# Altium footprint library MergenElektronik_Microcontrollers_STMicroelectronics.PcbLib: 2 footprints
Each footprint in its own frame and in the unit in brackets; x right, y up, seen from the top. Pads: shape width x height; smd on the part's side, far side on the other; paste and mask are expansions set on the pad; w line width, h text height; cw(c..) or ccw(c..) is an arc to the next point about the centre after c.
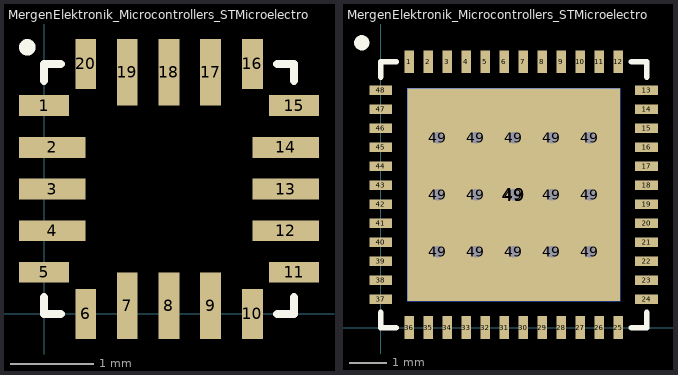
[diagram p0: the footprints below, top view; thin cyan lines are the x and y axes]

## MergenElektronik_Microcontrollers_STMicroelectronics_UFQFPN-20 [mm] "UFQFPN-20"
pads (20):
  rect 0.6x0.25 smd: 1(0,2.5) 5(0,0.5) 11(3,0.5) 15(3,2.5)
  rect 0.8x0.25 smd: 2(0.1,2) 3(0.1,1.5) 4(0.1,1) 12(2.9,1) 13(2.9,1.5) 14(2.9,2)
  rect 0.25x0.6 smd: 6(0.5,0) 10(2.5,0) 16(2.5,3) 20(0.5,3)
  rect 0.25x0.8 smd: 7(1,0.1) 8(1.5,0.1) 9(2,0.1) 17(2,2.9) 18(1.5,2.9) 19(1,2.9)
Top Overlay:
  circle w0.1: c-0.2,3.2 r0.05
  lines w0.1: 0,0.2 0,0 0.2,0 ; 0,2.8 0,3 0.2,3 ; 2.8,0 3,0 3,0.2 ; 2.8,3 3,3 ; 3,3 3,2.8 3,3
3D body "STM32C011F6U6TR.step": height 0.6, standoff 0, extent 0,0 3,3

## MergenElektronik_Microcontrollers_STMicroelectronics_UFQFPN-48 [mm] "UFQFPN-48"
pads (65):
  rect 0.25x0.6 smd: 1(0.75,7) 2(1.25,7) 3(1.75,7) 4(2.25,7) 5(2.75,7) 6(3.25,7) 7(3.75,7) 8(4.25,7) 9(4.75,7) 10(5.25,7) 11(5.75,7) 12(6.25,7) 25(6.25,0) 26(5.75,0) 27(5.25,0) 28(4.75,0) 29(4.25,0) 30(3.75,0) 31(3.25,0) 32(2.75,0) 33(2.25,0) 34(1.75,0) 35(1.25,0) 36(0.75,0)
  rect 0.6x0.25 smd: 13(7,6.25) 14(7,5.75) 15(7,5.25) 16(7,4.75) 17(7,4.25) 18(7,3.75) 19(7,3.25) 20(7,2.75) 21(7,2.25) 22(7,1.75) 23(7,1.25) 24(7,0.75) 37(0,0.75) 38(0,1.25) 39(0,1.75) 40(0,2.25) 41(0,2.75) 42(0,3.25) 43(0,3.75) 44(0,4.25) 45(0,4.75) 46(0,5.25) 47(0,5.75) 48(0,6.25)
  round 0.6 hole 0.3: 49(1.5,2) 49(1.5,3.5) 49(1.5,5) 49(2.5,2) 49(2.5,3.5) 49(2.5,5) 49(3.5,2) 49(3.5,3.5) 49(3.5,5) 49(4.5,2) 49(4.5,3.5) 49(4.5,5) 49(5.5,2) 49(5.5,3.5) 49(5.5,5)
  rect 5.6x5.6 smd: 49(3.5,3.5)
  rect 5.6x5.6 smd far side: 49(3.5,3.5)
Top Overlay:
  circle w0.2: c-0.5,7.5 r0.1
  lines w0.15: 0,0.4 0,0 0.4,0 ; 0,6.6 0,7 ; 0.005,7 0.405,7 ; 6.6,0 7,0 7,0.4 ; 6.6,7 7,7 7,6.6
3D body "UFQFPN-48_7X7X0P55MM.step": height 0.61, standoff 0, extent -0.056,-0.056 7.056,7.056